# Altium footprint library dpfootprint.PcbLib: 90 footprints (part 4 of 6)
Each footprint in its own frame and in the unit in brackets; x right, y up, seen from the top. Pads: shape width x height; smd on the part's side, far side on the other; paste and mask are expansions set on the pad; w line width, h text height; cw(c..) or ccw(c..) is an arc to the next point about the centre after c.
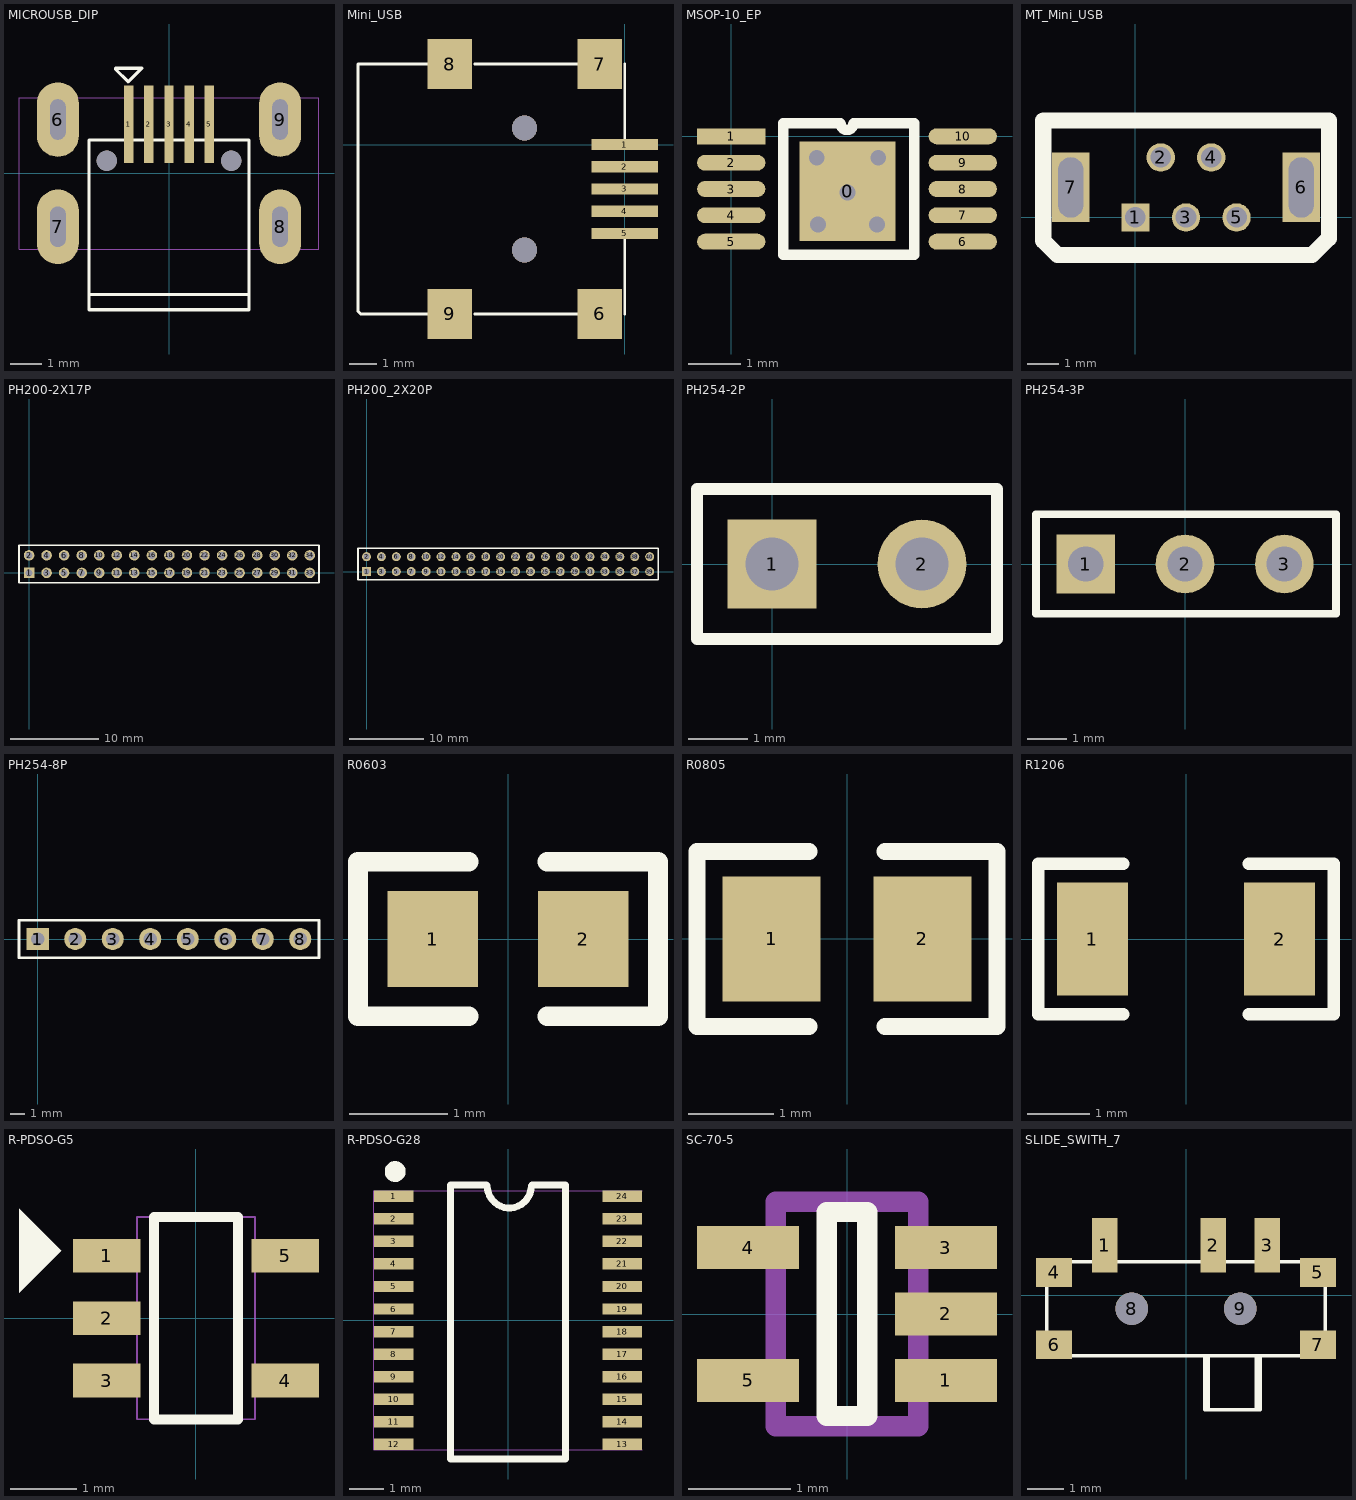
[diagram p3: the footprints below, top view; thin cyan lines are the x and y axes]

## MICROUSB_DIP [mm]
pads (11):
  rect 0.3x2.5 smd: 1(-1.3,1.573) 2(-0.65,1.573) 3(0,1.573) 4(0.65,1.573) 5(1.3,1.573)
  oval 1.35x2.4 hole 0.5 slot 1.3 at 90 deg: 6(-3.575,1.725) 7(-3.575,-1.725) 8(3.575,-1.725) 9(3.575,1.725)
  round 0.65 hole 0.65: " "(-2,0.4) " "(2,0.4)
Top Overlay:
  lines w0.1: -2.579,-3.9 -2.579,-4.394 2.579,-4.394 2.579,-3.9 ; -2.579,-3.9 -2.579,1.067 2.579,1.067 2.579,-3.9 ; -2.579,-3.9 2.579,-3.9 ; -1.726,3.351 -1.726,3.376 -0.876,3.376 -1.313,2.939 -1.726,3.351
Mechanical 9:
Mechanical 12:
  lines w0.025: -4.826,-2.45 4.826,-2.45 4.826,2.425 -4.826,2.425 -4.826,-2.45

## Mini_USB [mm]
pads (9):
  rect 2.4x0.4 smd: 1(0,0) 2(0,-0.8) 3(0,-1.6) 4(0,-2.4) 5(0,-3.2)
  rect 1.6x1.8 smd: 6(-0.9,-6.1) 7(-0.9,2.9) 8(-6.3,2.9) 9(-6.3,-6.1)
via -3.6,-3.8 diameter 0.9 hole 0.9
via -3.6,0.6 diameter 0.9 hole 0.9
Top Overlay:
  lines w0.1: -7.1,2.9 -9.6,2.9 -9.6,-6 -9.5,-6.1 -7,-6.1 ; -5.4,-6.1 -1.6,-6.1 ; -5.4,2.9 -1.6,2.9 ; 0,-6.1 0,-3.4 ; 0,0.2 0,2.9

## MSOP-10_EP [mm]
pads (11):
  rect 1.83x1.89 smd: 0(2.21,-1.041)
  rect 1.3x0.3 smd: 1(0,0)
  oval 1.3x0.3 smd: 2(0,-0.5) 3(0,-1) 4(0,-1.5) 5(0,-2) 6(4.4,-2) 7(4.4,-1.5) 8(4.4,-1) 9(4.4,-0.5) 10(4.4,0)
via 2.21,-1.067 diameter 0.6 hole 0.3
via 1.651,-1.676 diameter 0.6 hole 0.3
via 1.626,-0.406 diameter 0.6 hole 0.3
via 2.794,-0.406 diameter 0.6 hole 0.3
via 2.769,-1.676 diameter 0.6 hole 0.3
Top Overlay:
  lines w0.2: 0.991,-2.25 3.48,-2.25 3.48,0.25 2.325,0.25 cw(c2.2,0.25) 2.075,0.25 0.991,0.25 0.991,-2.25

## MT_Mini_USB [mm]
pads (7):
  rect 0.9x0.9 hole 0.65: 1(0,0)
  round 0.9 hole 0.65: 2(0.8,1.9) 3(1.6,0) 4(2.4,1.9) 5(3.2,0)
  rect 1.2x2.2 hole 0.8 slot 1.9 at 90 deg: 6(5.25,0.95) 7(-2.05,0.95)
Top Overlay:
  lines w0.2: -2.388,-1.27 -2.388,-1.245
  lines w0.508: -2.921,-0.737 -2.464,-1.194 5.588,-1.194 6.121,-0.66 6.121,3.073 -2.921,3.073 -2.921,-0.737

## PH200-2X17P [mm]
pads (34):
  rect 1.2x1.2 hole 0.8: 1(0,0)
  round 1.2 hole 0.8: 2(0,2) 3(2,0) 4(2,2) 5(4,0) 6(4,2) 7(6,0) 8(6,2) 9(8,0) 10(8,2) 11(10,0) 12(10,2) 13(12,0) 14(12,2) 15(14,0) 16(14,2) 17(16,0) 18(16,2) 19(18,0) 20(18,2) 21(20,0) 22(20,2) 23(22,0) 24(22,2) 25(24,0) 26(24,2) 27(26,0) 28(26,2) 29(28,0) 30(28,2) 31(30,0) 32(30,2) 33(32,0) 34(32,2)
Top Overlay:
  lines w0.2: -1.143,-1.118 33.045,-1.118 33.045,3.15
  lines w0.203: -1.143,-1.118 -1.143,3.15 33.045,3.15

## PH200_2X20P [mm]
pads (40):
  rect 1.2x1.2 hole 0.8: 1(0,0)
  round 1.2 hole 0.8: 2(0,2) 3(2,0) 4(2,2) 5(4,0) 6(4,2) 7(6,0) 8(6,2) 9(8,0) 10(8,2) 11(10,0) 12(10,2) 13(12,0) 14(12,2) 15(14,0) 16(14,2) 17(16,0) 18(16,2) 19(18,0) 20(18,2) 21(20,0) 22(20,2) 23(22,0) 24(22,2) 25(24,0) 26(24,2) 27(26,0) 28(26,2) 29(28,0) 30(28,2) 31(30,0) 32(30,2) 33(32,0) 34(32,2) 35(34,0) 36(34,2) 37(36,0) 38(36,2) 39(38,0) 40(38,2)
Top Overlay:
  lines w0.2: -1.143,-1.118 39.116,-1.118 39.116,3.15
  lines w0.203: -1.143,-1.118 -1.143,3.15 39.116,3.15

## PH254-2P [mm]
pads (2):
  rect 1.5x1.5 hole 0.9: 1(0,0)
  round 1.5 hole 0.9: 2(2.54,0)
Top Overlay:
  lines w0.2: -1.27,-1.27 3.81,-1.27 3.81,1.27 -1.27,1.27 -1.27,-1.27

## PH254-3P [mm]
pads (3):
  rect 1.5x1.5 hole 0.9: 1(-2.54,0)
  round 1.5 hole 0.9: 2(0,0) 3(2.54,0)
Top Overlay:
  lines w0.2: -3.81,-1.27 3.861,-1.27 3.861,1.27 -3.81,1.27 -3.81,-1.27

## PH254-8P [mm]
pads (8):
  rect 1.5x1.5 hole 0.9: 1(0,0)
  round 1.5 hole 0.9: 2(2.54,0) 3(5.08,0) 4(7.62,0) 5(10.16,0) 6(12.7,0) 7(15.24,0) 8(17.78,0)
Top Overlay:
  lines w0.2: -1.27,-1.27 -1.27,1.27 19.05,1.27 19.05,-1.27 -1.27,-1.27

## R0603 [mm] "R0603"
pads (2):
  rect 0.93x0.98 smd: 1(-0.77,0) 2(0.77,0)
Top Overlay:
  lines w0.2: -0.4,-0.79 -1.535,-0.79 -1.535,0.79 -0.4,0.79 ; 0.4,-0.79 1.535,-0.79 1.535,0.79 0.4,0.79

## R0805 [mm]
pads (2):
  rect 1.16x1.47 smd: 1(-0.89,0) 2(0.89,0)
Top Overlay:
  lines w0.2: -0.45,-1.035 -1.77,-1.035 -1.77,1.035 -0.45,1.035 ; 0.45,-1.035 1.77,-1.035 1.77,1.035 0.45,1.035
3D body: height 0.49, standoff -0.01, extent -0.997,-0.625 1.003,0.625

## R1206 [mm]
pads (2):
  rect 1.13x1.8 smd: 1(-1.49,0) 2(1.49,0)
Top Overlay:
  lines w0.2: -1,-1.2 -2.355,-1.2 -2.355,1.2 -1,1.2 ; 1,-1.2 2.355,-1.2 2.355,1.2 1,1.2
3D body: height 0.85, standoff 0, extent -1.7,-0.864 1.65,0.866

## R-PDSO-G5 [mil] "R-PDSO-G5"
pads (5):
  rect 40x20 smd: 1(-53,37) 2(-53,0) 3(-53,-37) 4(53,-37) 5(53,37)
Top Overlay:
  pour cut-out: -80,40 -105,65 -105,15
  lines w6: -25,-60 25,-60 25,60 -25,60 -25,-60
Mechanical 12:
  lines w1: -35,-60 35,-60 35,60 -35,60 -35,-60

## R-PDSO-G28 [mil] "R-PDSO-G28"
pads (24):
  rect 45x13 smd: 1(-129.92,140.74) 2(-129.92,115.15) 3(-129.92,89.56) 4(-129.92,63.97) 5(-129.92,38.38) 6(-129.92,12.79) 7(-129.92,-12.8) 8(-129.92,-38.39) 9(-129.92,-63.99) 10(-129.92,-89.58) 11(-129.92,-115.17) 12(-129.92,-140.76) 13(129.92,-140.76) 14(129.92,-115.17) 15(129.92,-89.58) 16(129.92,-63.99) 17(129.92,-38.39) 18(129.92,-12.8) 19(129.92,12.79) 20(129.92,38.38) 21(129.92,63.97) 22(129.92,89.56) 23(129.92,115.15) 24(129.92,140.74)
Top Overlay:
  circle w11.81: c-128.19,168.93 r5.91
  lines w7.87: -65.55,-157.47 -65.55,153.53 -24.55,153.53 -23.55,152.53 ccw(c1.45,152.53) 26.45,152.53 27.45,153.53 65.55,153.53 65.55,-157.47 -65.55,-157.47
Mechanical 12:
  lines w1: 152.42,-147.25 -152.42,-147.25 -152.42,147.24 152.42,147.24

## SC-70-5 [mm]
pads (5):
  rect 1x0.42 smd mask+0.051: 1(0.97,-0.65) 2(0.97,0) 3(0.97,0.65) 4(-0.97,0.65) 5(-0.97,-0.65)
Top Overlay:
  lines w0.2: -0.2,-1 0.2,-1 0.2,1 -0.2,1 -0.2,-1
Mechanical 13:
  lines w0.2: -0.7,-1.1 -0.7,1.1 0.7,1.1 0.7,-1.1 -0.7,-1.1
3D body: height 1.1, standoff 0, extent -1.2,-1.1 1.2,1.1

## SLIDE_SWITH_7 [mm]
pads (9):
  rect 0.7x1.5 smd: 1(-2.25,1.375) 2(0.75,1.375) 3(2.25,1.375)
  rect 1x0.8 smd: 4(-3.65,0.625) 5(3.65,0.625) 6(-3.65,-1.375) 7(3.65,-1.375)
  round 0.9 hole 0.9 unplated: 8(-1.5,-0.375) 9(1.5,-0.375)
Top Overlay:
  lines w0.1: 0.616,-3.175 0.616,-1.675 ; 1.952,-3.175 1.952,-1.675 ; -3.85,-1.675 3.85,-1.675 3.85,0.925 -3.85,0.925 -3.85,-1.675 ; 0.516,-3.175 2.052,-3.175 2.052,-1.675 0.516,-1.675 0.516,-3.175